# EAGLE library part TP25K_TOP (library TP25K_SGQ)
DF40C-60DS-0.4V(51)
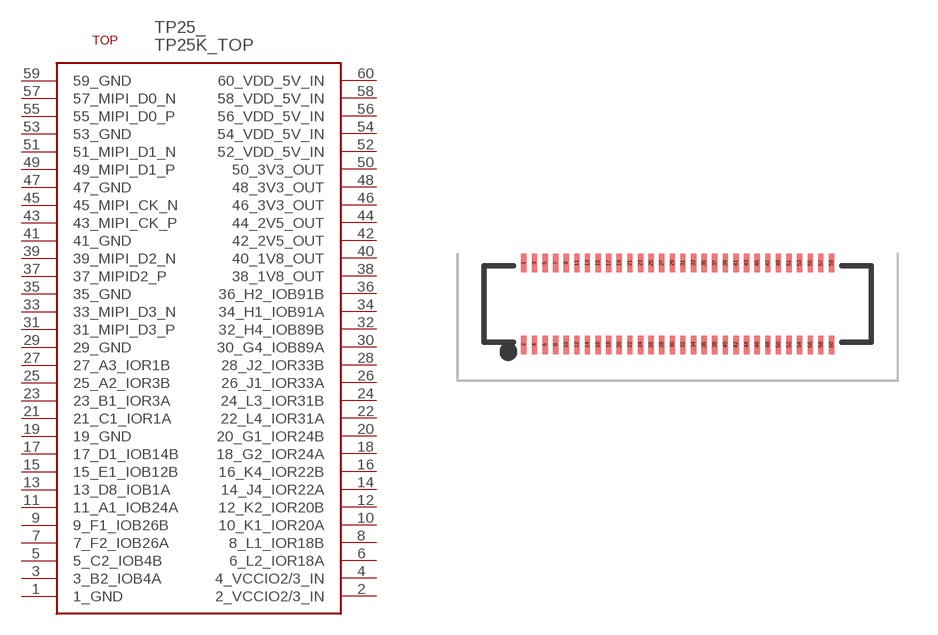
[diagram p0: symbol with the pads of TP25K_TOP_FP; footprint TP25K_TOP_FP]

Designator prefix TP25_

## TP25K_TOP (LCSC_PART: C597938)  [TP25K_TOP_FP]
1  1_GND
2  2_VCCIO2/3_IN
3  3_B2_IOB4A
4  4_VCCIO2/3_IN
5  5_C2_IOB4B
6  6_L2_IOR18A
7  7_F2_IOB26A
8  8_L1_IOR18B
9  9_F1_IOB26B
10  10_K1_IOR20A
11  11_A1_IOB24A
12  12_K2_IOR20B
13  13_D8_IOB1A
14  14_J4_IOR22A
15  15_E1_IOB12B
16  16_K4_IOR22B
17  17_D1_IOB14B
18  18_G2_IOR24A
19  19_GND
20  20_G1_IOR24B
21  21_C1_IOR1A
22  22_L4_IOR31A
23  23_B1_IOR3A
24  24_L3_IOR31B
25  25_A2_IOR3B
26  26_J1_IOR33A
27  27_A3_IOR1B
28  28_J2_IOR33B
29  29_GND
30  30_G4_IOB89A
31  31_MIPI_D3_P
32  32_H4_IOB89B
33  33_MIPI_D3_N
34  34_H1_IOB91A
35  35_GND
36  36_H2_IOB91B
37  37_MIPID2_P
38  38_1V8_OUT
39  39_MIPI_D2_N
40  40_1V8_OUT
41  41_GND
42  42_2V5_OUT
43  43_MIPI_CK_P
44  44_2V5_OUT
45  45_MIPI_CK_N
46  46_3V3_OUT
47  47_GND
48  48_3V3_OUT
49  49_MIPI_D1_P
50  50_3V3_OUT
51  51_MIPI_D1_N
52  52_VDD_5V_IN
53  53_GND
54  54_VDD_5V_IN
55  55_MIPI_D0_P
56  56_VDD_5V_IN
57  57_MIPI_D0_N
58  58_VDD_5V_IN
59  59_GND
60  60_VDD_5V_IN

## Footprint TP25K_TOP_FP (pad centres in mm)
DF40C-60DS-0.4V(51)-3
smd 0.2 x 0.7: 1 -5.8,1.54; 2 -5.8,-1.54; 3 -5.4,1.54; 4 -5.4,-1.54; 5 -5,1.54; 6 -5,-1.54; 7 -4.6,1.54; 8 -4.6,-1.54; 9 -4.2,1.54; 10 -4.2,-1.54; 11 -3.8,1.54; 12 -3.8,-1.54; 13 -3.4,1.54; 14 -3.4,-1.54; 15 -3,1.54; 16 -3,-1.54; 17 -2.6,1.54; 18 -2.6,-1.54; 19 -2.2,1.54; 20 -2.2,-1.54; 21 -1.8,1.54; 22 -1.8,-1.54; 23 -1.4,1.54; 24 -1.4,-1.54; 25 -1,1.54; 26 -1,-1.54; 27 -0.6,1.54; 28 -0.6,-1.54; 29 -0.2,1.54; 30 -0.2,-1.54; 31 0.2,1.54; 32 0.2,-1.54; 33 0.6,1.54; 34 0.6,-1.54; 35 1,1.54; 36 1,-1.54; 37 1.4,1.54; 38 1.4,-1.54; 39 1.8,1.54; 40 1.8,-1.54; 41 2.2,1.54; 42 2.2,-1.54; 43 2.6,1.54; 44 2.6,-1.54; 45 3,1.54; 46 3,-1.54; 47 3.4,1.54; 48 3.4,-1.54; 49 3.8,1.54; 50 3.8,-1.54; 51 4.2,1.54; 52 4.2,-1.54; 53 4.6,1.54; 54 4.6,-1.54; 55 5,1.54; 56 5,-1.54; 57 5.4,1.54; 58 5.4,-1.54; 59 5.8,1.54; 60 5.8,-1.54